# Altium footprint library PCB - OPTOISOLATOR - SHARP PC357N2J000F.PcbLib: 1 footprints
Each footprint in its own frame and in the unit in brackets; x right, y up, seen from the top. Pads: shape width x height; smd on the part's side, far side on the other; paste and mask are expansions set on the pad; w line width, h text height; cw(c..) or ccw(c..) is an arc to the next point about the centre after c.
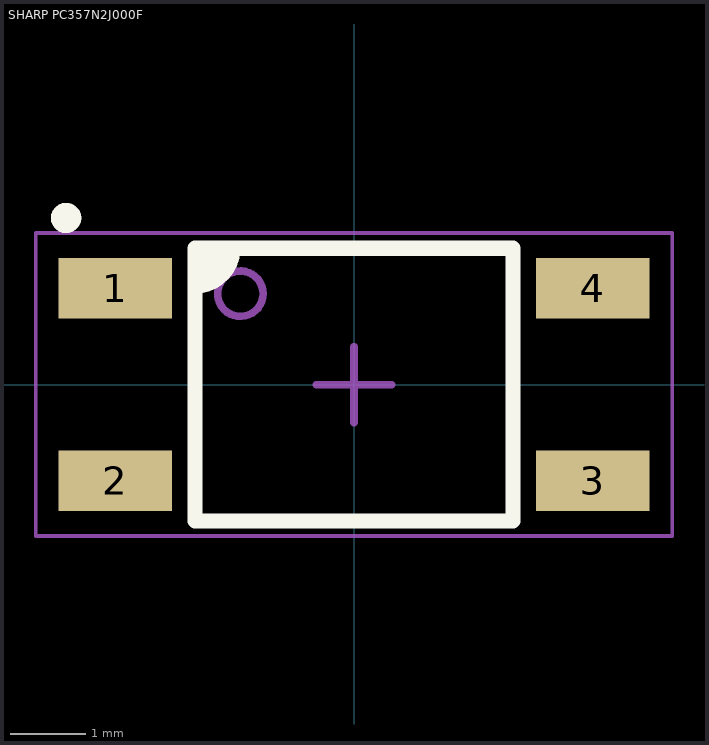
[diagram p0: the footprint, top view; thin cyan lines are the x and y axes]

## SHARP PC357N2J000F [mm] "Optoisolator Transistor Output 3750Vrms 1 Channel 4-Mini-Flat, 2.54mm Pitch, 3.6x4.4 mm Body, 4-SMD Package"
height 3
pads (4):
  rect 1.5x0.8 smd: 1(-3.15,1.27) 2(-3.15,-1.27) 3(3.15,-1.27) 4(3.15,1.27)
Top Overlay:
  circle w0.2: c-3.8,2.2 r0.1
  region: -2.1,1.799 -2.099,1.792 -2.094,1.78 -2.084,1.77 -2.072,1.765 -2.065,1.764 -1.601,1.764 -1.601,1.672 -1.672,1.501 -1.803,1.37 -1.973,1.299 -2.066,1.299 -2.1,1.299
  lines w0.2: -2.1,1.299 ccw(c-2.1,1.799) -1.601,1.764 ; -2.1,-1.799 0,-1.799 2.1,-1.799 ; -2.1,-1.799 -2.1,-1.799 ; -2.1,-1.799 -2.1,1.799 0,1.799 2.1,1.799 2.1,-1.799 ; 2.1,-1.799 2.1,-1.799
Mechanical 13:
  circle w0.1: c-1.5,1.2 r0.3
  lines w0.1: -2.1,-1.799 2.1,-1.799 2.1,1.799 -2.1,1.799 -2.1,-1.799
Mechanical 15 (Mech15):
  lines w0.05: -4.2,-2 4.2,-2 4.2,2 -4.2,2 -4.2,-2
  lines w0.1: -0.5,0 0,0 ; 0,-0.5 0,0 ; 0,0.5 0,0 ; 0.5,0 0,0
3D body "Sharp - SMD-4 v3.step": height 3, standoff 0, extent -3.5,-1.799 3.5,1.799